# Altium footprint library Frost5000Beta_LIB_Otros_PCB.PcbLib: 8 footprints
Each footprint in its own frame and in the unit in brackets; x right, y up, seen from the top. Pads: shape width x height; smd on the part's side, far side on the other; paste and mask are expansions set on the pad; w line width, h text height; cw(c..) or ccw(c..) is an arc to the next point about the centre after c.
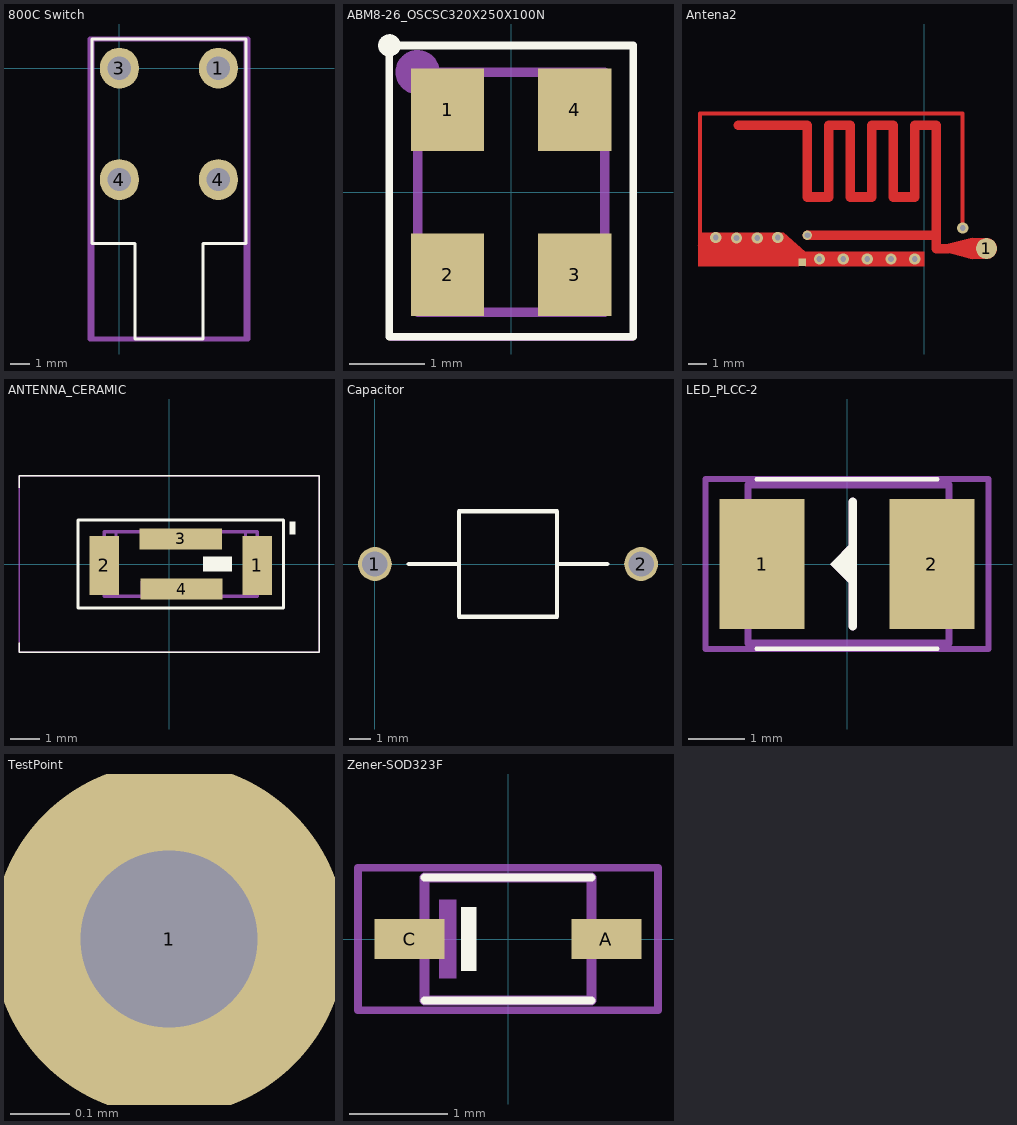
[diagram p0: the footprints below, top view; thin cyan lines are the x and y axes]

## 800C Switch [mm]
pads (4):
  oval 2x2.1 hole 1.2: 1(5.08,0) 3(0,0) 4(0,-5.715) 4(5.08,-5.715)
Top Overlay:
  lines w0.16: -1.4,-9 -1.4,1.5 6.5,1.5 6.5,-9 4.3,-9 4.3,-13.9 0.8,-13.9 0.8,-9 -1.4,-9
Mechanical 13:
  lines w0.254: -1.5,-13.9 6.59,-13.9 6.59,1.5 -1.5,1.5 -1.5,-13.9
  text "'.Designator'" at 2,-3 h0.7
Mechanical 15:
  lines w0.254: -1.4,-13.9 6.5,-13.9 6.5,1.5 -1.4,1.5 -1.4,-13.9
3D body "Push_800C.STEP": height 6.61, standoff -3.04, extent -1.51,-19.2 6.59,0.7

## ABM8-26_OSCSC320X250X100N [mm] "Crystal de 26MHz"
pads (4):
  rect 0.98x1.1 smd: 1(-0.85,1.1) 2(-0.85,-1.1) 3(0.85,-1.1) 4(0.85,1.1)
Top Overlay:
  circle w0.127: c-1.626,1.956 r0.086
  lines w0.102: -1.626,-1.93 -1.626,1.956 1.626,1.956 1.626,-1.93 -1.626,-1.93
Mechanical 13:
  circle w0.25: c-1.25,1.6 r0.17
  lines w0.1: -1.25,-0.75 -1.225,-0.725 -0.475,-0.725 -0.475,-1.6 ; -1.25,0.75 -0.5,0.75 -0.5,1.575 -0.475,1.6 ; 0.475,-1.6 0.5,-1.575 0.5,-0.725 1.25,-0.725 ; 0.475,1.6 0.5,1.575 0.5,0.75 1.25,0.75
  lines w0.127: -1.25,-1.6 -1.25,1.6 1.25,1.6 1.25,-1.6 -1.25,-1.6
  text "'.Designator'" at -0.9,-0.275 h0.5
Mechanical 15:
  lines w0.05: -1.61,-1.96 1.61,-1.96 1.61,1.96 -1.61,1.96 -1.61,-1.96
3D body "ABM8-26MHz.STEP": height 1.01, standoff 0.01, extent -1.25,-1.6 1.25,1.6

## Antena2 [mil] "Footprint Antena2"
pads (2):
  round 44 smd: 1(130,517)
  rect 15x15 smd: 2(-255.91,488.19)
via -307.09,540 diameter 23.62 hole 11.81
via -393.7,539.12 diameter 23.62 hole 11.81
via -350.39,539.12 diameter 23.62 hole 11.81
via -437.01,540 diameter 23.62 hole 11.81
via -220,495 diameter 23.62 hole 11.81
via -170,495 diameter 23.62 hole 11.81
via -120,495 diameter 23.62 hole 11.81
via -70,495 diameter 23.62 hole 11.81
via -20,495 diameter 23.62 hole 11.81
via 80,560 diameter 23.62 hole 11.81
via -245,545 diameter 20 hole 11.81
Top Layer:
  region: -262.8,480.31 -262.8,492.13 -295.67,525 -473.03,525 -474.41,523.62 -473.43,522.64 -473.43,480.31
  region: -250,510 -295,550 -325,550 -470,550 -470,525 -300,525 -250,480.31
  region: 0,480.31 -250,480.31 -250,510 0,510 0,490
  region: 50,527.12 100,539.12 100,495 50,507.77
  lines w7.87: -470,525 -470,800 80,800 80,560
  lines w20: -390,775 -245,775 -245,625 -200,625 -200,775 -155,775 -155,625 -110,625 -110,775 -65,775 -65,625 -20,625 -20,775 25,775 25,517 50,517 ; -245,545 25,545
  lines w44: 100,517 130,517
Top Solder:
  rectangle: -476.38,476.38 86.61,807.09

## ANTENNA_CERAMIC [mm] "PCB CERAMIC ANTENNA"
pads (4):
  rect 1x2 smd: 1(3,-0.05) 2(-2.2,-0.05)
  rect 2.8x0.7 smd: 3(0.4,0.85) 4(0.425,-0.85)
Top Overlay:
  rectangle: 1.15,-0.25 2.15,0.25
  rectangle: 4.1,1 4.3,1.45
  lines w0.05: -5.1,-2.675 -5.1,-3 5.1,-3 5.1,3 -5.1,3 -5.1,2.6
  lines w0.102: -3.1,-1.5 3.9,-1.5 3.9,1.5 -3.1,1.5 -3.1,-1.5
Mechanical 13:
  circle w0.25: c1.85,0 r0.09
  lines w0.1: -1.8,-1.1 -1.8,1.1 ; -0.925,1.1 -0.925,0.6 1.7,0.6 1.7,1.075 1.675,1.1 ; -0.913,-1.05 -0.913,-0.575 1.713,-0.575 1.713,-1.075 ; 2.6,-1.1 2.6,1.1
  lines w0.127: -2.2,-1.1 3,-1.1 3,1.1 -2.2,1.1 -2.2,-1.1
  text "'.Designator'" at -1.5,-0.25 h0.45
Mechanical 15:
  lines w0.05: -5.1,-3 -5.1,3 5.1,3 5.1,-3 -5.1,-3
3D body "AntennaCeramic--2450AT42B100E.STEP": height 2.11, standoff 0.01, extent -2.1,-1 2.9,1

## Capacitor [mm]
pads (2):
  round 1.6 hole 1.2: 1(0,0) 2(12.6,0)
Top Overlay:
  lines w0.2: 1.6,0 3.975,0 ; 8.625,0 11,0 ; 3.975,0 3.975,-2.5 8.625,-2.5 8.625,2.5 3.975,2.5 3.975,0

## LED_PLCC-2 [mm] "Footprint_LED_PLCC-2"
pads (2):
  rect 1.5x2.3 smd: 1(-1.5,0) 2(1.5,0)
Top Overlay:
  region: 0.1,0.4 -0.3,0 0.1,-0.4
  lines w0.076: -1.6,-1.5 1.6,-1.5 ; -1.6,1.5 1.6,1.5
  lines w0.15: 0.1,-1.1 0.1,1.1
Mechanical 13:
  region: 0.1,0.4 -0.3,0 0.1,-0.4
  lines w0.1: -1.747,-1 -1,-1 -1,1 -1.747,1 ; 1.8,-1 1,-1 1,1 1.8,1
  lines w0.127: -1.747,-1.4 -1.747,1.4 1.8,1.4 1.8,-1.4 -1.747,-1.4
  lines w0.15: 0.1,-1.1 0.1,1.1
  text "'.Designator'" at 2.025,1.175 h0.5
Mechanical 15:
  lines w0.102: -2.5,-1.5 2.5,-1.5 2.5,1.5 -2.5,1.5 -2.5,-1.5
3D body "LED_PLCC-2.STEP": height 1.67, standoff -0.15, extent -1.732,-1.4 1.847,1.4

## TestPoint [mil] "Via_TestPoint"
pads (1):
  round 15 all layers, no hole: 1(0,0)
via 0,0 diameter 23.62 hole 11.81

## Zener-SOD323F [mm] "Fooprint Zener"
pads (2):
  rect 0.71x0.403 smd: A(1,0) C(-1,0)
Top Overlay:
  region: -0.475,0.325 -0.325,0.325 -0.325,-0.325 -0.475,-0.325
  lines w0.08: -0.85,-0.625 0.85,-0.625 ; -0.85,0.625 0.85,0.625
Mechanical 13:
  region: -0.7,0.4 -0.525,0.4 -0.525,-0.4 -0.7,-0.4
  lines w0.08: -0.85,-0.15 -1.25,-0.15 -1.25,0.15 -0.85,0.15 ; 0.85,-0.15 1.25,-0.15 1.25,0.15 0.85,0.15
  lines w0.1: -0.85,-0.625 -0.85,0.625 0.85,0.625 0.85,-0.625 -0.85,-0.625
  text "'.Designator'" at -0.39,-0.125 h0.25
Mechanical 15:
  lines w0.08: -1.525,-0.725 -1.525,0.725 1.525,0.725 1.525,-0.725 -1.525,-0.725
3D body "Zener-SOD323F.step": height 1.01, standoff 0.01, extent -1.25,-0.675 1.25,0.675